# Altium schematic symbol library kmilo17pet-LT_OpAmp_LT1000.SchLib: 2280 symbols (part 21 of 79)
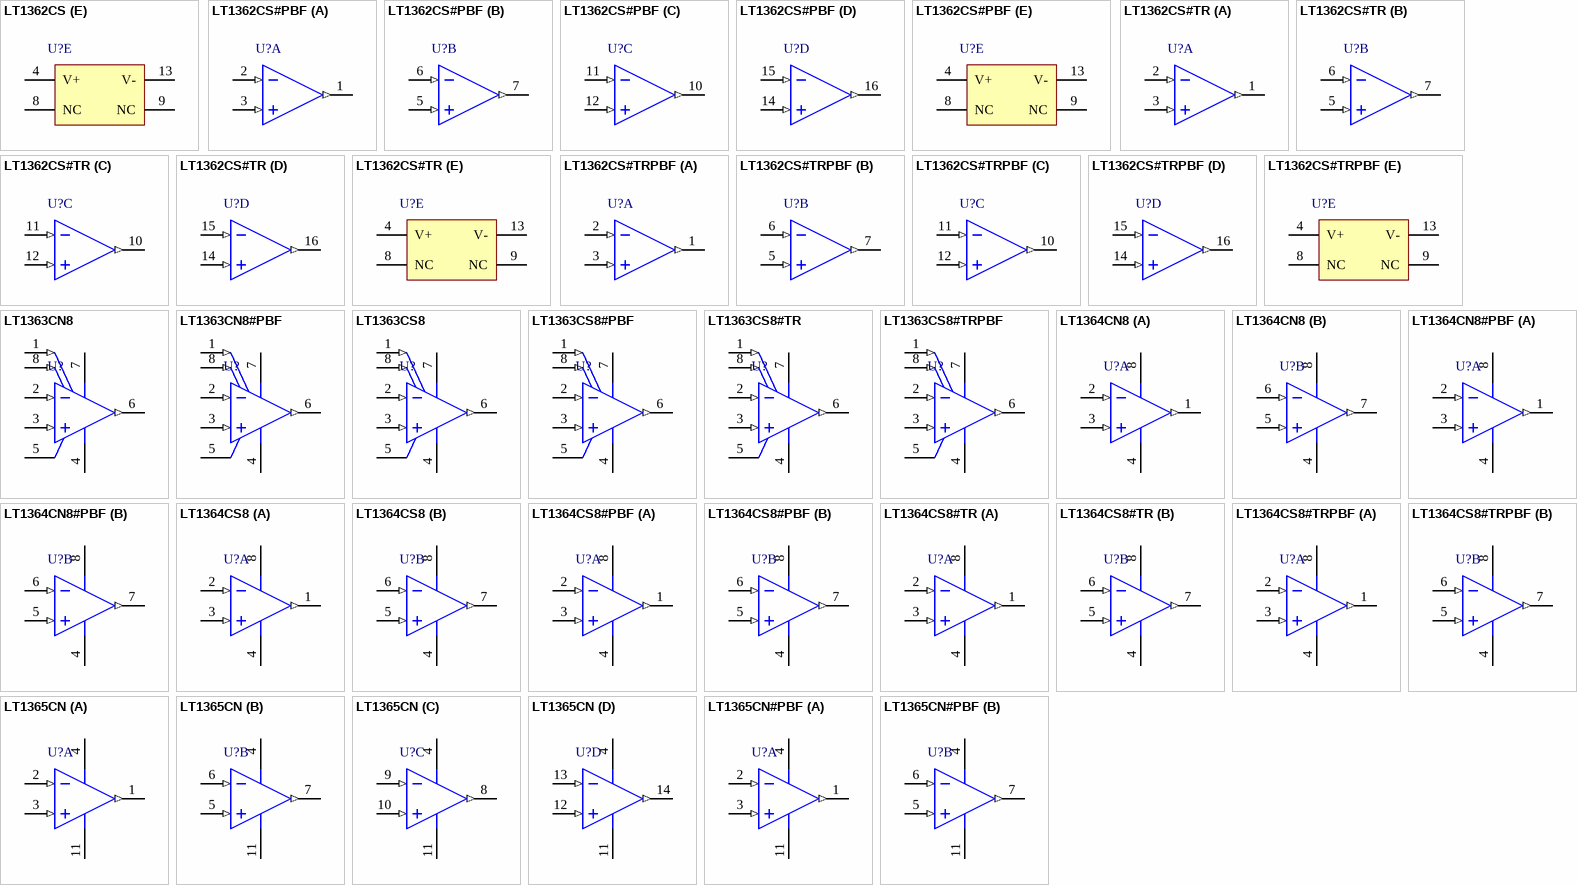
[diagram p125: symbols LT1362CS to LT1365CN#PBF]

## LT1363CS8#PBF
designator U?
Single Channel, High Speed Precision Operational Amplifier, 70 MHz Typical GBW, 1000 V/us Typical SR, 3 to 36 V, 8-Pin SOIC (S8-8), Commerical, Pb-Free; Linear Technology Part Number: LT1363; Manufacturer: Linear Technology; PartNumber: LT1363CS8#PBF; Channels (#): 1; GBW (MHz) Typical: 70; Is (mA) Typical: 6.3; SR (V/us) Typical: 1000; Vos (mV) Typical: 0.5; Vs Max (V): 36; Vs Min (V): 3; DatasheetVersion: Rev. A; PackageVersion: Rev G; PackageReference: LT-S8-8; PackageDescription: 8-Pin Plastic Small Outline, Body 4.9 x 3.9 mm, Pitch 1.27 mm; Supplier 1: Digi-Key; Supplier Part Number 1: LT1363CS8#PBF-ND; Supplier 2: Newark; Supplier Part Number 2: 57M3505; RoHS: Pb-Free; Type: VFB; Mounting Technology: Surface Mount; ComponentLink1Description: Manufacturer URL; ComponentLink1URL: http://www.linear.com/; ComponentLink2Description: Datasheet; ComponentLink2URL: http://cds.linear.com/docs/en/datasheet/1363fa.pdf; ComponentLink3Description: Package Specification; ComponentLink3URL: http://cds.linear.com/docs/en/packaging/05081610_G_SO8.pdf
footprint LT-S8-8_N (SOIC, 8-Leads, Body 4.9x3.9mm, Pitch 1.27mm, IPC Medium Density)
footprint LT-S8-8_L (SOIC, 8-Leads, Body 4.9x3.9mm, Pitch 1.27mm, IPC High Density)
footprint LT-S8-8_M (SOIC, 8-Leads, Body 4.9x3.9mm, Pitch 1.27mm, IPC Low Density)
pins: 1 NULL (in), 2 -IN (in), 3 +IN (in), 4 V- (power), 5 NC, 6 VOUT (out), 7 V+ (power), 8 NULL (in)

## LT1363CS8#TR
designator U?
Single Channel, High Speed Precision Operational Amplifier, 70 MHz Typical GBW, 1000 V/us Typical SR, 3 to 36 V, 8-Pin SOIC (S8-8), Commerical, Reel; Linear Technology Part Number: LT1363; Manufacturer: Linear Technology; PartNumber: LT1363CS8#TR; Channels (#): 1; GBW (MHz) Typical: 70; Is (mA) Typical: 6.3; SR (V/us) Typical: 1000; Vos (mV) Typical: 0.5; Vs Max (V): 36; Vs Min (V): 3; DatasheetVersion: Rev. A; PackageVersion: Rev G; PackageReference: LT-S8-8; PackageDescription: 8-Pin Plastic Small Outline, Body 4.9 x 3.9 mm, Pitch 1.27 mm; Supplier 1: Digi-Key; Supplier Part Number 1: LT1363CS8#TR-ND; Supplier 2: Newark; Supplier Part Number 2: 57M3506; Packing: Reel; Type: VFB; Mounting Technology: Surface Mount; ComponentLink1Description: Manufacturer URL; ComponentLink1URL: http://www.linear.com/; ComponentLink2Description: Datasheet; ComponentLink2URL: http://cds.linear.com/docs/en/datasheet/1363fa.pdf; ComponentLink3Description: Package Specification; ComponentLink3URL: http://cds.linear.com/docs/en/packaging/05081610_G_SO8.pdf
footprint LT-S8-8_N (SOIC, 8-Leads, Body 4.9x3.9mm, Pitch 1.27mm, IPC Medium Density)
footprint LT-S8-8_L (SOIC, 8-Leads, Body 4.9x3.9mm, Pitch 1.27mm, IPC High Density)
footprint LT-S8-8_M (SOIC, 8-Leads, Body 4.9x3.9mm, Pitch 1.27mm, IPC Low Density)
pins: 1 NULL (in), 2 -IN (in), 3 +IN (in), 4 V- (power), 5 NC, 6 VOUT (out), 7 V+ (power), 8 NULL (in)

## LT1363CS8#TRPBF
designator U?
Single Channel, High Speed Precision Operational Amplifier, 70 MHz Typical GBW, 1000 V/us Typical SR, 3 to 36 V, 8-Pin SOIC (S8-8), Commerical, Pb-Free, Reel; Linear Technology Part Number: LT1363; Manufacturer: Linear Technology; PartNumber: LT1363CS8#TRPBF; Channels (#): 1; GBW (MHz) Typical: 70; Is (mA) Typical: 6.3; SR (V/us) Typical: 1000; Vos (mV) Typical: 0.5; Vs Max (V): 36; Vs Min (V): 3; DatasheetVersion: Rev. A; PackageVersion: Rev G; PackageReference: LT-S8-8; PackageDescription: 8-Pin Plastic Small Outline, Body 4.9 x 3.9 mm, Pitch 1.27 mm; Supplier 1: Digi-Key; Supplier Part Number 1: LT1363CS8#TRPBF-ND; Supplier 2: Newark; Supplier Part Number 2: 57M3507; Packing: Reel; RoHS: Pb-Free; Type: VFB; Mounting Technology: Surface Mount; ComponentLink1Description: Manufacturer URL; ComponentLink1URL: http://www.linear.com/; ComponentLink2Description: Datasheet; ComponentLink2URL: http://cds.linear.com/docs/en/datasheet/1363fa.pdf; ComponentLink3Description: Package Specification; ComponentLink3URL: http://cds.linear.com/docs/en/packaging/05081610_G_SO8.pdf
footprint LT-S8-8_N (SOIC, 8-Leads, Body 4.9x3.9mm, Pitch 1.27mm, IPC Medium Density)
footprint LT-S8-8_L (SOIC, 8-Leads, Body 4.9x3.9mm, Pitch 1.27mm, IPC High Density)
footprint LT-S8-8_M (SOIC, 8-Leads, Body 4.9x3.9mm, Pitch 1.27mm, IPC Low Density)
pins: 1 NULL (in), 2 -IN (in), 3 +IN (in), 4 V- (power), 5 NC, 6 VOUT (out), 7 V+ (power), 8 NULL (in)

## LT1364CN8
designator U?
Dual Channel, High Speed Precision Operational Amplifier, 70 MHz Typical GBW, 1000 V/us Typical SR, 3 to 36 V, 8-Pin DIP (N8-8), Commercial; Linear Technology Part Number: LT1364; Manufacturer: Linear Technology; PartNumber: LT1364CN8; Channels (#): 2; GBW (MHz) Typical: 70; Is (mA) Typical: 6; SR (V/us) Typical: 1000; Vos (mV) Typical: 0.5; Vs Max (V): 36; Vs Min (V): 3; DatasheetVersion: Rev. A; PackageVersion: Rev I; PackageReference: LT-N8-8; PackageDescription: 8-Lead PDIP, Body 10.16 x 6.48 mm, Pitch 2.54 mm; Supplier 1: Digi-Key; Supplier Part Number 1: LT1364CN8-ND; Type: VFB; Mounting Technology: Surface Mount; ComponentLink1Description: Manufacturer URL; ComponentLink1URL: http://www.linear.com/; ComponentLink2Description: Datasheet; ComponentLink2URL: http://cds.linear.com/docs/en/datasheet/13645fa.pdf; ComponentLink3Description: Package Specification; ComponentLink3URL: http://cds.linear.com/docs/en/packaging/05081510_I_N8.pdf
footprint LT-N8-8 (DIP, 8-Leads, Body 10.16x6.48mm, Pitch 2.54mm)
pins on every part: 4 V- (power), 8 V+ (power)
part A pins: 1 OUT A (out), 2 -IN A (in), 3 +IN A (in)
part B pins: 5 +IN B (in), 6 -IN B (in), 7 OUT B (out)

## LT1364CN8#PBF
designator U?
Dual Channel, High Speed Precision Operational Amplifier, 70 MHz Typical GBW, 1000 V/us Typical SR, 3 to 36 V, 8-Pin DIP (N8-8), Commercial, Pb-Free; Linear Technology Part Number: LT1364; Manufacturer: Linear Technology; PartNumber: LT1364CN8#PBF; Channels (#): 2; GBW (MHz) Typical: 70; Is (mA) Typical: 6; SR (V/us) Typical: 1000; Vos (mV) Typical: 0.5; Vs Max (V): 36; Vs Min (V): 3; DatasheetVersion: Rev. A; PackageVersion: Rev I; PackageReference: LT-N8-8; PackageDescription: 8-Lead PDIP, Body 10.16 x 6.48 mm, Pitch 2.54 mm; Supplier 1: Digi-Key; Supplier Part Number 1: LT1364CN8#PBF-ND; Supplier 2: Farnell; Supplier Part Number 2: 1330644; Supplier 3: Newark; Supplier Part Number 3: 57M3509; RoHS: Pb-Free; Type: VFB; Mounting Technology: Through Hole; ComponentLink1Description: Manufacturer URL; ComponentLink1URL: http://www.linear.com/; ComponentLink2Description: Datasheet; ComponentLink2URL: http://cds.linear.com/docs/en/datasheet/13645fa.pdf; ComponentLink3Description: Package Specification; ComponentLink3URL: http://cds.linear.com/docs/en/packaging/05081510_I_N8.pdf
footprint LT-N8-8 (DIP, 8-Leads, Body 10.16x6.48mm, Pitch 2.54mm)
pins on every part: 4 V- (power), 8 V+ (power)
part A pins: 1 OUT A (out), 2 -IN A (in), 3 +IN A (in)
part B pins: 5 +IN B (in), 6 -IN B (in), 7 OUT B (out)

## LT1364CS8
designator U?
Dual Channel, High Speed Precision Operational Amplifier, 70 MHz Typical GBW, 1000 V/us Typical SR, 3 to 36 V, 8-Pin SOIC (S8-8), Commercial; Linear Technology Part Number: LT1364; Manufacturer: Linear Technology; PartNumber: LT1364CS8; Channels (#): 2; GBW (MHz) Typical: 70; Is (mA) Typical: 6; SR (V/us) Typical: 1000; Vos (mV) Typical: 0.5; Vs Max (V): 36; Vs Min (V): 3; DatasheetVersion: Rev. A; PackageVersion: Rev G; PackageReference: LT-S8-8; PackageDescription: 8-Pin Plastic Small Outline, Body 4.9 x 3.9 mm, Pitch 1.27 mm; Supplier 1: Digi-Key; Supplier Part Number 1: LT1364CS8-ND; Supplier 2: Newark; Supplier Part Number 2: 57M3510; Type: VFB; Mounting Technology: Surface Mount; ComponentLink1Description: Manufacturer URL; ComponentLink1URL: http://www.linear.com/; ComponentLink2Description: Datasheet; ComponentLink2URL: http://cds.linear.com/docs/en/datasheet/13645fa.pdf; ComponentLink3Description: Package Specification; ComponentLink3URL: http://cds.linear.com/docs/en/packaging/05081610_G_SO8.pdf
footprint LT-S8-8_N (SOIC, 8-Leads, Body 4.9x3.9mm, Pitch 1.27mm, IPC Medium Density)
footprint LT-S8-8_L (SOIC, 8-Leads, Body 4.9x3.9mm, Pitch 1.27mm, IPC High Density)
footprint LT-S8-8_M (SOIC, 8-Leads, Body 4.9x3.9mm, Pitch 1.27mm, IPC Low Density)
pins on every part: 4 V- (power), 8 V+ (power)
part A pins: 1 OUT A (out), 2 -IN A (in), 3 +IN A (in)
part B pins: 5 +IN B (in), 6 -IN B (in), 7 OUT B (out)

## LT1364CS8#PBF
designator U?
Dual Channel, High Speed Precision Operational Amplifier, 70 MHz Typical GBW, 1000 V/us Typical SR, 3 to 36 V, 8-Pin SOIC (S8-8), Commercial, Pb-Free; Linear Technology Part Number: LT1364; Manufacturer: Linear Technology; PartNumber: LT1364CS8#PBF; Channels (#): 2; GBW (MHz) Typical: 70; Is (mA) Typical: 6; SR (V/us) Typical: 1000; Vos (mV) Typical: 0.5; Vs Max (V): 36; Vs Min (V): 3; DatasheetVersion: Rev. A; PackageVersion: Rev G; PackageReference: LT-S8-8; PackageDescription: 8-Pin Plastic Small Outline, Body 4.9 x 3.9 mm, Pitch 1.27 mm; Supplier 1: Digi-Key; Supplier Part Number 1: LT1364CS8#PBF-ND; Supplier 2: Farnell; Supplier Part Number 2: 1663414; Supplier 3: Newark; Supplier Part Number 3: 57M3511; RoHS: Pb-Free; Type: VFB; Mounting Technology: Surface Mount; ComponentLink1Description: Manufacturer URL; ComponentLink1URL: http://www.linear.com/; ComponentLink2Description: Datasheet; ComponentLink2URL: http://cds.linear.com/docs/en/datasheet/13645fa.pdf; ComponentLink3Description: Package Specification; ComponentLink3URL: http://cds.linear.com/docs/en/packaging/05081610_G_SO8.pdf
footprint LT-S8-8_N (SOIC, 8-Leads, Body 4.9x3.9mm, Pitch 1.27mm, IPC Medium Density)
footprint LT-S8-8_L (SOIC, 8-Leads, Body 4.9x3.9mm, Pitch 1.27mm, IPC High Density)
footprint LT-S8-8_M (SOIC, 8-Leads, Body 4.9x3.9mm, Pitch 1.27mm, IPC Low Density)
pins on every part: 4 V- (power), 8 V+ (power)
part A pins: 1 OUT A (out), 2 -IN A (in), 3 +IN A (in)
part B pins: 5 +IN B (in), 6 -IN B (in), 7 OUT B (out)

## LT1364CS8#TR
designator U?
Dual Channel, High Speed Precision Operational Amplifier, 70 MHz Typical GBW, 1000 V/us Typical SR, 3 to 36 V, 8-Pin SOIC (S8-8), Commercial, Reel; Linear Technology Part Number: LT1364; Manufacturer: Linear Technology; PartNumber: LT1364CS8#TR; Channels (#): 2; GBW (MHz) Typical: 70; Is (mA) Typical: 6; SR (V/us) Typical: 1000; Vos (mV) Typical: 0.5; Vs Max (V): 36; Vs Min (V): 3; DatasheetVersion: Rev. A; PackageVersion: Rev G; PackageReference: LT-S8-8; PackageDescription: 8-Pin Plastic Small Outline, Body 4.9 x 3.9 mm, Pitch 1.27 mm; Supplier 1: Digi-Key; Supplier Part Number 1: LT1364CS8#TR-ND; Packing: Reel; Type: VFB; Mounting Technology: Surface Mount; ComponentLink1Description: Manufacturer URL; ComponentLink1URL: http://www.linear.com/; ComponentLink2Description: Datasheet; ComponentLink2URL: http://cds.linear.com/docs/en/datasheet/13645fa.pdf; ComponentLink3Description: Package Specification; ComponentLink3URL: http://cds.linear.com/docs/en/packaging/05081610_G_SO8.pdf
footprint LT-S8-8_N (SOIC, 8-Leads, Body 4.9x3.9mm, Pitch 1.27mm, IPC Medium Density)
footprint LT-S8-8_L (SOIC, 8-Leads, Body 4.9x3.9mm, Pitch 1.27mm, IPC High Density)
footprint LT-S8-8_M (SOIC, 8-Leads, Body 4.9x3.9mm, Pitch 1.27mm, IPC Low Density)
pins on every part: 4 V- (power), 8 V+ (power)
part A pins: 1 OUT A (out), 2 -IN A (in), 3 +IN A (in)
part B pins: 5 +IN B (in), 6 -IN B (in), 7 OUT B (out)

## LT1364CS8#TRPBF
designator U?
Dual Channel, High Speed Precision Operational Amplifier, 70 MHz Typical GBW, 1000 V/us Typical SR, 3 to 36 V, 8-Pin SOIC (S8-8), Commercial, Pb-Free, Reel; Linear Technology Part Number: LT1364; Manufacturer: Linear Technology; PartNumber: LT1364CS8#TRPBF; Channels (#): 2; GBW (MHz) Typical: 70; Is (mA) Typical: 6; SR (V/us) Typical: 1000; Vos (mV) Typical: 0.5; Vs Max (V): 36; Vs Min (V): 3; DatasheetVersion: Rev. A; PackageVersion: Rev G; PackageReference: LT-S8-8; PackageDescription: 8-Pin Plastic Small Outline, Body 4.9 x 3.9 mm, Pitch 1.27 mm; Supplier 1: Digi-Key; Supplier Part Number 1: LT1364CS8#TRPBF-ND; Supplier 2: Newark; Supplier Part Number 2: 57M3513; Packing: Reel; RoHS: Pb-Free; Type: VFB; Mounting Technology: Surface Mount; ComponentLink1Description: Manufacturer URL; ComponentLink1URL: http://www.linear.com/; ComponentLink2Description: Datasheet; ComponentLink2URL: http://cds.linear.com/docs/en/datasheet/13645fa.pdf; ComponentLink3Description: Package Specification; ComponentLink3URL: http://cds.linear.com/docs/en/packaging/05081610_G_SO8.pdf
footprint LT-S8-8_N (SOIC, 8-Leads, Body 4.9x3.9mm, Pitch 1.27mm, IPC Medium Density)
footprint LT-S8-8_L (SOIC, 8-Leads, Body 4.9x3.9mm, Pitch 1.27mm, IPC High Density)
footprint LT-S8-8_M (SOIC, 8-Leads, Body 4.9x3.9mm, Pitch 1.27mm, IPC Low Density)
pins on every part: 4 V- (power), 8 V+ (power)
part A pins: 1 OUT A (out), 2 -IN A (in), 3 +IN A (in)
part B pins: 5 +IN B (in), 6 -IN B (in), 7 OUT B (out)

## LT1365CN
designator U?
Quad Channel, High Speed Precision Operational Amplifier, 70 MHz Typical GBW, 1000 V/us Typical SR, 3 to 36 V, 14-Pin DIP (N-14), Commerical; Linear Technology Part Number: LT1365; Manufacturer: Linear Technology; PartNumber: LT1365CN; Channels (#): 4; GBW (MHz) Typical: 70; Is (mA) Typical: 6; SR (V/us) Typical: 1000; Vos (mV) Typical: 0.5; Vs Max (V): 36; Vs Min (V): 3; DatasheetVersion: Rev. A; PackageVersion: Rev I; PackageReference: LT-N-14; PackageDescription: 14-Lead PDIP, Body 19.558 x 6.477 mm, Pitch 2.54 mm; Supplier 1: Digi-Key; Supplier Part Number 1: LT1365CN-ND; Type: VFB; Mounting Technology: Surface Mount; ComponentLink1Description: Manufacturer URL; ComponentLink1URL: http://www.linear.com/; ComponentLink2Description: Datasheet; ComponentLink2URL: http://cds.linear.com/docs/en/datasheet/13645fa.pdf; ComponentLink3Description: Package Specification; ComponentLink3URL: http://cds.linear.com/docs/en/packaging/05081510_I_N14.pdf
footprint LT-N-14 (DIP, 14-Leads, Body 19.558x6.477mm, Pitch 2.54mm)
pins on every part: 4 V+ (power), 11 V- (power)
part A pins: 1 OUT A (out), 2 -IN A (in), 3 +IN A (in)
part B pins: 5 +IN B (in), 6 -IN B (in), 7 OUT B (out)
part C pins: 8 OUT C (out), 9 -IN C (in), 10 +IN C (in)
part D pins: 12 +IN D (in), 13 -IN D (in), 14 OUT D (out)

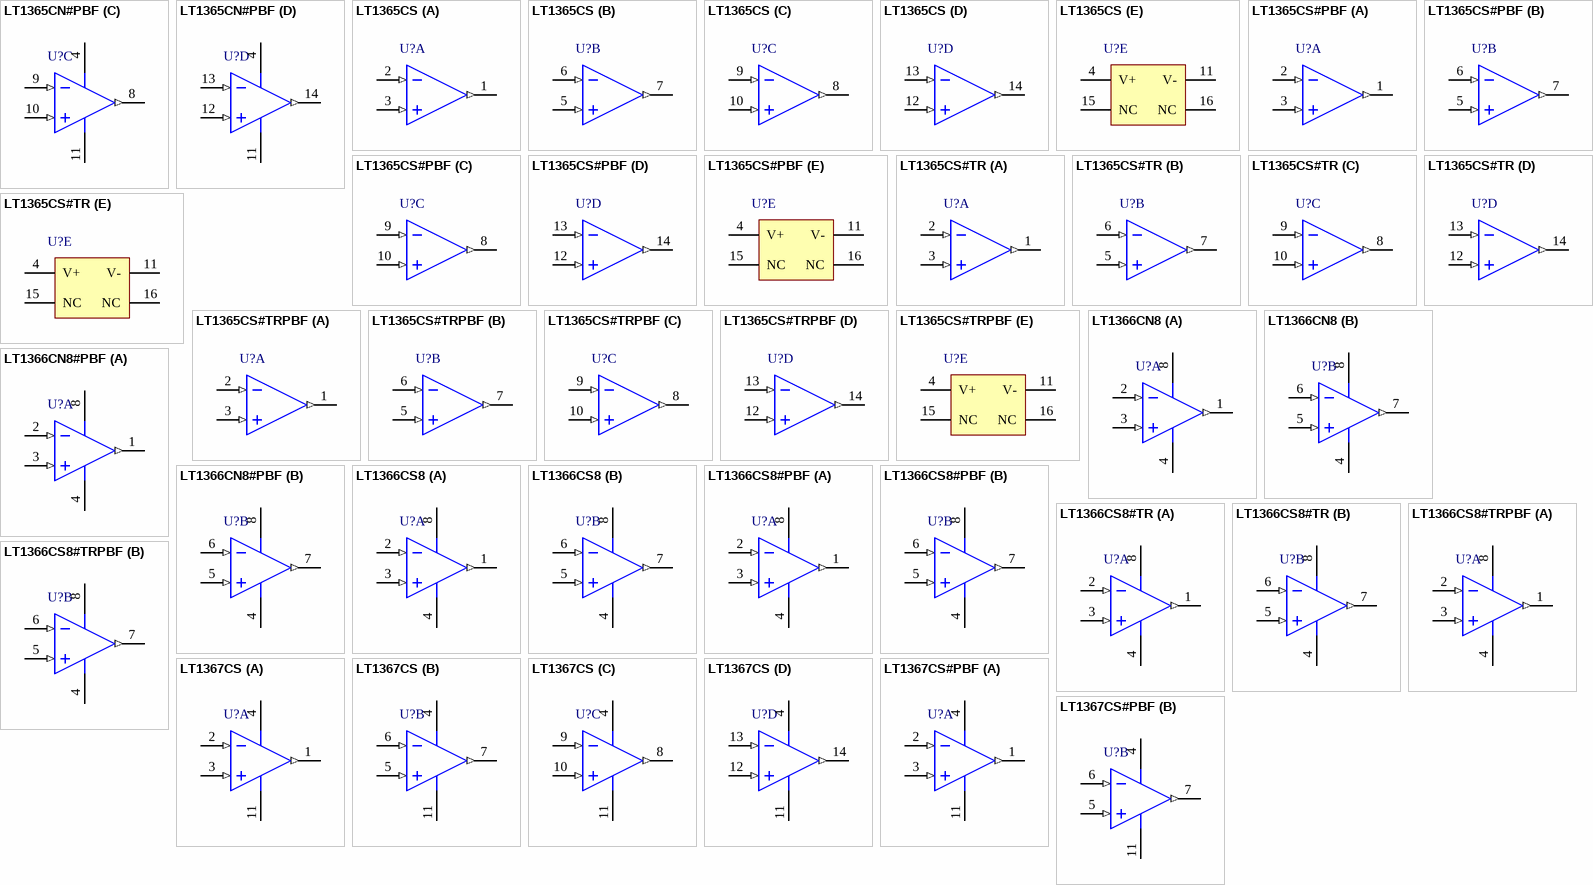
[diagram p32: symbols LT1365CN#PBF to LT1367CS#PBF]

## LT1365CN#PBF
designator U?
Quad Channel, High Speed Precision Operational Amplifier, 70 MHz Typical GBW, 1000 V/us Typical SR, 3 to 36 V, 14-Pin DIP (N-14), Commerical, Pb-Free; Linear Technology Part Number: LT1365; Manufacturer: Linear Technology; PartNumber: LT1365CN#PBF; Channels (#): 4; GBW (MHz) Typical: 70; Is (mA) Typical: 6; SR (V/us) Typical: 1000; Vos (mV) Typical: 0.5; Vs Max (V): 36; Vs Min (V): 3; DatasheetVersion: Rev. A; PackageVersion: Rev I; PackageReference: LT-N-14; PackageDescription: 14-Lead PDIP, Body 19.558 x 6.477 mm, Pitch 2.54 mm; Supplier 1: Digi-Key; Supplier Part Number 1: LT1365CN#PBF-ND; Supplier 2: Newark; Supplier Part Number 2: 57M3515; RoHS: Pb-Free; Type: VFB; Mounting Technology: Through Hole; ComponentLink1Description: Manufacturer URL; ComponentLink1URL: http://www.linear.com/; ComponentLink2Description: Datasheet; ComponentLink2URL: http://cds.linear.com/docs/en/datasheet/13645fa.pdf; ComponentLink3Description: Package Specification; ComponentLink3URL: http://cds.linear.com/docs/en/packaging/05081510_I_N14.pdf
footprint LT-N-14 (DIP, 14-Leads, Body 19.558x6.477mm, Pitch 2.54mm)
pins on every part: 4 V+ (power), 11 V- (power)
part A pins: 1 OUT A (out), 2 -IN A (in), 3 +IN A (in)
part B pins: 5 +IN B (in), 6 -IN B (in), 7 OUT B (out)
part C pins: 8 OUT C (out), 9 -IN C (in), 10 +IN C (in)
part D pins: 12 +IN D (in), 13 -IN D (in), 14 OUT D (out)

## LT1365CS
designator U?
Quad Channel, High Speed Precision Operational Amplifier, 70 MHz Typical GBW, 1000 V/us Typical SR, 3 to 36 V, 16-Pin SOIC (S-16), Commercial; Linear Technology Part Number: LT1365; Manufacturer: Linear Technology; PartNumber: LT1365CS; Channels (#): 4; GBW (MHz) Typical: 70; Is (mA) Typical: 6; SR (V/us) Typical: 1000; Vos (mV) Typical: 0.5; Vs Max (V): 36; Vs Min (V): 3; DatasheetVersion: Rev. A; PackageVersion: Rev G; PackageReference: LT-S-16; PackageDescription: 16-Lead Plastic Small Outline, Body 9.9 x 3.9 mm, Pitch 1.27 mm; Supplier 1: Digi-Key; Supplier Part Number 1: LT1365CS-ND; Type: VFB; Mounting Technology: Surface Mount; ComponentLink1Description: Manufacturer URL; ComponentLink1URL: http://www.linear.com/; ComponentLink2Description: Datasheet; ComponentLink2URL: http://cds.linear.com/docs/en/datasheet/13645fa.pdf; ComponentLink3Description: Package Specification; ComponentLink3URL: http://cds.linear.com/docs/en/packaging/S16%2005-08-1610%20Rev%20G.pdf
footprint LT-S-16_N (SOP, 16-Leads, Body 9.9x3.9mm, Pitch 1.27mm, IPC Medium Density)
footprint LT-S-16_L (SOP, 16-Leads, Body 9.9x3.9mm, Pitch 1.27mm, IPC High Density)
footprint LT-S-16_M (SOP, 16-Leads, Body 9.9x3.9mm, Pitch 1.27mm, IPC Low Density)
part A pins: 1 OUT A (out), 2 -IN A (in), 3 +IN A (in)
part B pins: 5 +IN B (in), 6 -IN B (in), 7 OUT B (out)
part C pins: 8 OUT C (out), 9 -IN C (in), 10 +IN C (in)
part D pins: 12 +IN D (in), 13 -IN D (in), 14 OUT D (out)
part E pins: 4 V+ (power), 11 V- (power), 15 NC, 16 NC

## LT1365CS#PBF
designator U?
Quad Channel, High Speed Precision Operational Amplifier, 70 MHz Typical GBW, 1000 V/us Typical SR, 3 to 36 V, 16-Pin SOIC (S-16), Commercial, Pb-Free; Linear Technology Part Number: LT1365; Manufacturer: Linear Technology; PartNumber: LT1365CS#PBF; Channels (#): 4; GBW (MHz) Typical: 70; Is (mA) Typical: 6; SR (V/us) Typical: 1000; Vos (mV) Typical: 0.5; Vs Max (V): 36; Vs Min (V): 3; DatasheetVersion: Rev. A; PackageVersion: Rev G; PackageReference: LT-S-16; PackageDescription: 16-Lead Plastic Small Outline, Body 9.9 x 3.9 mm, Pitch 1.27 mm; Supplier 1: Digi-Key; Supplier Part Number 1: LT1365CS#PBF-ND; Supplier 2: Farnell; Supplier Part Number 2: 2252713; Supplier 3: Newark; Supplier Part Number 3: 57M3517; RoHS: Pb-Free; Type: VFB; Mounting Technology: Surface Mount; ComponentLink1Description: Manufacturer URL; ComponentLink1URL: http://www.linear.com/; ComponentLink2Description: Datasheet; ComponentLink2URL: http://cds.linear.com/docs/en/datasheet/13645fa.pdf; ComponentLink3Description: Package Specification; ComponentLink3URL: http://cds.linear.com/docs/en/packaging/S16%2005-08-1610%20Rev%20G.pdf
footprint LT-S-16_N (SOP, 16-Leads, Body 9.9x3.9mm, Pitch 1.27mm, IPC Medium Density)
footprint LT-S-16_L (SOP, 16-Leads, Body 9.9x3.9mm, Pitch 1.27mm, IPC High Density)
footprint LT-S-16_M (SOP, 16-Leads, Body 9.9x3.9mm, Pitch 1.27mm, IPC Low Density)
part A pins: 1 OUT A (out), 2 -IN A (in), 3 +IN A (in)
part B pins: 5 +IN B (in), 6 -IN B (in), 7 OUT B (out)
part C pins: 8 OUT C (out), 9 -IN C (in), 10 +IN C (in)
part D pins: 12 +IN D (in), 13 -IN D (in), 14 OUT D (out)
part E pins: 4 V+ (power), 11 V- (power), 15 NC, 16 NC

## LT1365CS#TR
designator U?
Quad Channel, High Speed Precision Operational Amplifier, 70 MHz Typical GBW, 1000 V/us Typical SR, 3 to 36 V, 16-Pin SOIC (S-16), Commercial, Reel; Linear Technology Part Number: LT1365; Manufacturer: Linear Technology; PartNumber: LT1365CS#TR; Channels (#): 4; GBW (MHz) Typical: 70; Is (mA) Typical: 6; SR (V/us) Typical: 1000; Vos (mV) Typical: 0.5; Vs Max (V): 36; Vs Min (V): 3; DatasheetVersion: Rev. A; PackageVersion: Rev G; PackageReference: LT-S-16; PackageDescription: 16-Lead Plastic Small Outline, Body 9.9 x 3.9 mm, Pitch 1.27 mm; Supplier 1: Digi-Key; Supplier Part Number 1: LT1365CS#TR-ND; Packing: Reel; Type: VFB; Mounting Technology: Surface Mount; ComponentLink1Description: Manufacturer URL; ComponentLink1URL: http://www.linear.com/; ComponentLink2Description: Datasheet; ComponentLink2URL: http://cds.linear.com/docs/en/datasheet/13645fa.pdf; ComponentLink3Description: Package Specification; ComponentLink3URL: http://cds.linear.com/docs/en/packaging/S16%2005-08-1610%20Rev%20G.pdf
footprint LT-S-16_N (SOP, 16-Leads, Body 9.9x3.9mm, Pitch 1.27mm, IPC Medium Density)
footprint LT-S-16_L (SOP, 16-Leads, Body 9.9x3.9mm, Pitch 1.27mm, IPC High Density)
footprint LT-S-16_M (SOP, 16-Leads, Body 9.9x3.9mm, Pitch 1.27mm, IPC Low Density)
part A pins: 1 OUT A (out), 2 -IN A (in), 3 +IN A (in)
part B pins: 5 +IN B (in), 6 -IN B (in), 7 OUT B (out)
part C pins: 8 OUT C (out), 9 -IN C (in), 10 +IN C (in)
part D pins: 12 +IN D (in), 13 -IN D (in), 14 OUT D (out)
part E pins: 4 V+ (power), 11 V- (power), 15 NC, 16 NC

## LT1365CS#TRPBF
designator U?
Quad Channel, High Speed Precision Operational Amplifier, 70 MHz Typical GBW, 1000 V/us Typical SR, 3 to 36 V, 16-Pin SOIC (S-16), Commercial, Pb-Free, Reel; Linear Technology Part Number: LT1365; Manufacturer: Linear Technology; PartNumber: LT1365CS#TRPBF; Channels (#): 4; GBW (MHz) Typical: 70; Is (mA) Typical: 6; SR (V/us) Typical: 1000; Vos (mV) Typical: 0.5; Vs Max (V): 36; Vs Min (V): 3; DatasheetVersion: Rev. A; PackageVersion: Rev G; PackageReference: LT-S-16; PackageDescription: 16-Lead Plastic Small Outline, Body 9.9 x 3.9 mm, Pitch 1.27 mm; Supplier 1: Digi-Key; Supplier Part Number 1: LT1365CS#TRPBF-ND; Supplier 2: Newark; Supplier Part Number 2: 57M3519; Packing: Reel; RoHS: Pb-Free; Type: VFB; Mounting Technology: Surface Mount; ComponentLink1Description: Manufacturer URL; ComponentLink1URL: http://www.linear.com/; ComponentLink2Description: Datasheet; ComponentLink2URL: http://cds.linear.com/docs/en/datasheet/13645fa.pdf; ComponentLink3Description: Package Specification; ComponentLink3URL: http://cds.linear.com/docs/en/packaging/S16%2005-08-1610%20Rev%20G.pdf
footprint LT-S-16_N (SOP, 16-Leads, Body 9.9x3.9mm, Pitch 1.27mm, IPC Medium Density)
footprint LT-S-16_L (SOP, 16-Leads, Body 9.9x3.9mm, Pitch 1.27mm, IPC High Density)
footprint LT-S-16_M (SOP, 16-Leads, Body 9.9x3.9mm, Pitch 1.27mm, IPC Low Density)
part A pins: 1 OUT A (out), 2 -IN A (in), 3 +IN A (in)
part B pins: 5 +IN B (in), 6 -IN B (in), 7 OUT B (out)
part C pins: 8 OUT C (out), 9 -IN C (in), 10 +IN C (in)
part D pins: 12 +IN D (in), 13 -IN D (in), 14 OUT D (out)
part E pins: 4 V+ (power), 11 V- (power), 15 NC, 16 NC

## LT1366CN8
designator U?
Dual Channel, Operational Amplifier, C-load Stable up to 1000pF, 0.4 MHz Typical GBW, 0.13 V/us Typical SR, 2 to 36 V, 8-Pin DIP (N8-8), Commerical; Linear Technology Part Number: LT1366; Manufacturer: Linear Technology; PartNumber: LT1366CN8; Channels (#): 2; GBW (MHz) Typical: 0.4; Is (mA) Typical: 0.34; SR (V/us) Typical: 0.13; Vos (mV) Typical: 0.15; Vs Max (V): 36; DatasheetVersion: Rev. B; PackageVersion: Rev I; PackageReference: LT-N8-8; PackageDescription: 8-Lead PDIP, Body 10.16 x 6.48 mm, Pitch 2.54 mm; Supplier 1: Digi-Key; Supplier Part Number 1: LT1366CN8-ND; Type: VFB; Vs Min (V): 2; Mounting Technology: Surface Mount; ComponentLink1Description: Manufacturer URL; ComponentLink1URL: http://www.linear.com/; ComponentLink2Description: Datasheet; ComponentLink2URL: http://cds.linear.com/docs/en/datasheet/1366fb.pdf; ComponentLink3Description: Package Specification; ComponentLink3URL: http://cds.linear.com/docs/en/packaging/05081510_I_N8.pdf
footprint LT-N8-8 (DIP, 8-Leads, Body 10.16x6.48mm, Pitch 2.54mm)
pins on every part: 4 V- (power), 8 V+ (power)
part A pins: 1 OUT A (out), 2 -IN A (in), 3 +IN A (in)
part B pins: 5 +IN B (in), 6 -IN B (in), 7 OUT B (out)

## LT1366CN8#PBF
designator U?
Dual Channel, Operational Amplifier, C-load Stable up to 1000pF, 0.4 MHz Typical GBW, 0.13 V/us Typical SR, 2 to 36 V, 8-Pin DIP (N8-8), Commerical, Pb-Free; Linear Technology Part Number: LT1366; Manufacturer: Linear Technology; PartNumber: LT1366CN8#PBF; Channels (#): 2; GBW (MHz) Typical: 0.4; Is (mA) Typical: 0.34; SR (V/us) Typical: 0.13; Vos (mV) Typical: 0.15; Vs Max (V): 36; DatasheetVersion: Rev. B; PackageVersion: Rev I; PackageReference: LT-N8-8; PackageDescription: 8-Lead PDIP, Body 10.16 x 6.48 mm, Pitch 2.54 mm; Supplier 1: Digi-Key; Supplier Part Number 1: LT1366CN8#PBF-ND; RoHS: Pb-Free; Type: VFB; Vs Min (V): 2; Mounting Technology: Through Hole; ComponentLink1Description: Manufacturer URL; ComponentLink1URL: http://www.linear.com/; ComponentLink2Description: Datasheet; ComponentLink2URL: http://cds.linear.com/docs/en/datasheet/1366fb.pdf; ComponentLink3Description: Package Specification; ComponentLink3URL: http://cds.linear.com/docs/en/packaging/05081510_I_N8.pdf
footprint LT-N8-8 (DIP, 8-Leads, Body 10.16x6.48mm, Pitch 2.54mm)
pins on every part: 4 V- (power), 8 V+ (power)
part A pins: 1 OUT A (out), 2 -IN A (in), 3 +IN A (in)
part B pins: 5 +IN B (in), 6 -IN B (in), 7 OUT B (out)

## LT1366CS8
designator U?
Dual Channel, Operational Amplifier, C-load Stable up to 1000pF, 0.4 MHz Typical GBW, 0.13 V/us Typical SR, 2 to 36 V, 8-Pin SOIC (S8-8), Commerical; Linear Technology Part Number: LT1366; Manufacturer: Linear Technology; PartNumber: LT1366CS8; Channels (#): 2; GBW (MHz) Typical: 0.4; Is (mA) Typical: 0.34; SR (V/us) Typical: 0.13; Vos (mV) Typical: 0.15; Vs Max (V): 36; DatasheetVersion: Rev. B; PackageVersion: Rev G; PackageReference: LT-S8-8; PackageDescription: 8-Pin Plastic Small Outline, Body 4.9 x 3.9 mm, Pitch 1.27 mm; Supplier 1: Digi-Key; Supplier Part Number 1: LT1366CS8-ND; Supplier 2: Newark; Supplier Part Number 2: 57M3522; Type: VFB; Vs Min (V): 2; Mounting Technology: Surface Mount; ComponentLink1Description: Manufacturer URL; ComponentLink1URL: http://www.linear.com/; ComponentLink2Description: Datasheet; ComponentLink2URL: http://cds.linear.com/docs/en/datasheet/1366fb.pdf; ComponentLink3Description: Package Specification; ComponentLink3URL: http://cds.linear.com/docs/en/packaging/05081610_G_SO8.pdf
footprint LT-S8-8_N (SOIC, 8-Leads, Body 4.9x3.9mm, Pitch 1.27mm, IPC Medium Density)
footprint LT-S8-8_L (SOIC, 8-Leads, Body 4.9x3.9mm, Pitch 1.27mm, IPC High Density)
footprint LT-S8-8_M (SOIC, 8-Leads, Body 4.9x3.9mm, Pitch 1.27mm, IPC Low Density)
pins on every part: 4 V- (power), 8 V+ (power)
part A pins: 1 OUT A (out), 2 -IN A (in), 3 +IN A (in)
part B pins: 5 +IN B (in), 6 -IN B (in), 7 OUT B (out)

## LT1366CS8#PBF
designator U?
Dual Channel, Operational Amplifier, C-load Stable up to 1000pF, 0.4 MHz Typical GBW, 0.13 V/us Typical SR, 2 to 36 V, 8-Pin SOIC (S8-8), Commerical, Pb-Free; Linear Technology Part Number: LT1366; Manufacturer: Linear Technology; PartNumber: LT1366CS8#PBF; Channels (#): 2; GBW (MHz) Typical: 0.4; Is (mA) Typical: 0.34; SR (V/us) Typical: 0.13; Vos (mV) Typical: 0.15; Vs Max (V): 36; DatasheetVersion: Rev. B; PackageVersion: Rev G; PackageReference: LT-S8-8; PackageDescription: 8-Pin Plastic Small Outline, Body 4.9 x 3.9 mm, Pitch 1.27 mm; Supplier 1: Digi-Key; Supplier Part Number 1: LT1366CS8#PBF-ND; Supplier 2: Newark; Supplier Part Number 2: 57M3523; RoHS: Pb-Free; Type: VFB; Vs Min (V): 2; Mounting Technology: Surface Mount; ComponentLink1Description: Manufacturer URL; ComponentLink1URL: http://www.linear.com/; ComponentLink2Description: Datasheet; ComponentLink2URL: http://cds.linear.com/docs/en/datasheet/1366fb.pdf; ComponentLink3Description: Package Specification; ComponentLink3URL: http://cds.linear.com/docs/en/packaging/05081610_G_SO8.pdf
footprint LT-S8-8_N (SOIC, 8-Leads, Body 4.9x3.9mm, Pitch 1.27mm, IPC Medium Density)
footprint LT-S8-8_L (SOIC, 8-Leads, Body 4.9x3.9mm, Pitch 1.27mm, IPC High Density)
footprint LT-S8-8_M (SOIC, 8-Leads, Body 4.9x3.9mm, Pitch 1.27mm, IPC Low Density)
pins on every part: 4 V- (power), 8 V+ (power)
part A pins: 1 OUT A (out), 2 -IN A (in), 3 +IN A (in)
part B pins: 5 +IN B (in), 6 -IN B (in), 7 OUT B (out)

## LT1366CS8#TR
designator U?
Dual Channel, Operational Amplifier, C-load Stable up to 1000pF, 0.4 MHz Typical GBW, 0.13 V/us Typical SR, 2 to 36 V, 8-Pin SOIC (S8-8), Commerical, Reel; Linear Technology Part Number: LT1366; Manufacturer: Linear Technology; PartNumber: LT1366CS8#TR; Channels (#): 2; GBW (MHz) Typical: 0.4; Is (mA) Typical: 0.34; SR (V/us) Typical: 0.13; Vos (mV) Typical: 0.15; Vs Max (V): 36; DatasheetVersion: Rev. B; PackageVersion: Rev G; PackageReference: LT-S8-8; PackageDescription: 8-Pin Plastic Small Outline, Body 4.9 x 3.9 mm, Pitch 1.27 mm; Supplier 1: Digi-Key; Supplier Part Number 1: LT1366CS8#TR-ND; Packing: Reel; Type: VFB; Vs Min (V): 2; Mounting Technology: Surface Mount; ComponentLink1Description: Manufacturer URL; ComponentLink1URL: http://www.linear.com/; ComponentLink2Description: Datasheet; ComponentLink2URL: http://cds.linear.com/docs/en/datasheet/1366fb.pdf; ComponentLink3Description: Package Specification; ComponentLink3URL: http://cds.linear.com/docs/en/packaging/05081610_G_SO8.pdf
footprint LT-S8-8_N (SOIC, 8-Leads, Body 4.9x3.9mm, Pitch 1.27mm, IPC Medium Density)
footprint LT-S8-8_L (SOIC, 8-Leads, Body 4.9x3.9mm, Pitch 1.27mm, IPC High Density)
footprint LT-S8-8_M (SOIC, 8-Leads, Body 4.9x3.9mm, Pitch 1.27mm, IPC Low Density)
pins on every part: 4 V- (power), 8 V+ (power)
part A pins: 1 OUT A (out), 2 -IN A (in), 3 +IN A (in)
part B pins: 5 +IN B (in), 6 -IN B (in), 7 OUT B (out)

## LT1366CS8#TRPBF
designator U?
Dual Channel, Operational Amplifier, C-load Stable up to 1000pF, 0.4 MHz Typical GBW, 0.13 V/us Typical SR, 2 to 36 V, 8-Pin SOIC (S8-8), Commerical, Pb-Free, Reel; Linear Technology Part Number: LT1366; Manufacturer: Linear Technology; PartNumber: LT1366CS8#TRPBF; Channels (#): 2; GBW (MHz) Typical: 0.4; Is (mA) Typical: 0.34; SR (V/us) Typical: 0.13; Vos (mV) Typical: 0.15; Vs Max (V): 36; DatasheetVersion: Rev. B; PackageVersion: Rev G; PackageReference: LT-S8-8; PackageDescription: 8-Pin Plastic Small Outline, Body 4.9 x 3.9 mm, Pitch 1.27 mm; Supplier 1: Digi-Key; Supplier Part Number 1: LT1366CS8#TRPBF-ND; Supplier 2: Newark; Supplier Part Number 2: 57M3525; Packing: Reel; RoHS: Pb-Free; Type: VFB; Vs Min (V): 2; Mounting Technology: Surface Mount; ComponentLink1Description: Manufacturer URL; ComponentLink1URL: http://www.linear.com/; ComponentLink2Description: Datasheet; ComponentLink2URL: http://cds.linear.com/docs/en/datasheet/1366fb.pdf; ComponentLink3Description: Package Specification; ComponentLink3URL: http://cds.linear.com/docs/en/packaging/05081610_G_SO8.pdf
footprint LT-S8-8_N (SOIC, 8-Leads, Body 4.9x3.9mm, Pitch 1.27mm, IPC Medium Density)
footprint LT-S8-8_L (SOIC, 8-Leads, Body 4.9x3.9mm, Pitch 1.27mm, IPC High Density)
footprint LT-S8-8_M (SOIC, 8-Leads, Body 4.9x3.9mm, Pitch 1.27mm, IPC Low Density)
pins on every part: 4 V- (power), 8 V+ (power)
part A pins: 1 OUT A (out), 2 -IN A (in), 3 +IN A (in)
part B pins: 5 +IN B (in), 6 -IN B (in), 7 OUT B (out)

## LT1367CS
designator U?
Quad Channel, Operational Amplifier, C-load Stable up to 1000pF, 0.4 MHz Typical GBW, 0.13 V/us Typical SR, 2 to 36 V, 14-Pin SOIC (S-14), Commerical; Linear Technology Part Number: LT1367; Manufacturer: Linear Technology; PartNumber: LT1367CS; Channels (#): 4; GBW (MHz) Typical: 0.4; Is (mA) Typical: 0.34; SR (V/us) Typical: 0.13; Vos (mV) Typical: 0.15; Vs Max (V): 36; Vs Min (V): 2; DatasheetVersion: Rev. B; PackageVersion: Rev G; PackageReference: LT-S-14; PackageDescription: 14-Lead Plastic Small Outline, Body 8.65 x 3.90 mm, Pitch 1.27 mm; Supplier 1: Digi-Key; Supplier Part Number 1: LT1367CS-ND; Supplier 2: Newark; Supplier Part Number 2: 57M3526; Type: VFB; Mounting Technology: Surface Mount; ComponentLink1Description: Manufacturer URL; ComponentLink1URL: http://www.linear.com/; ComponentLink2Description: Datasheet; ComponentLink2URL: http://cds.linear.com/docs/en/datasheet/1366fb.pdf; ComponentLink3Description: Package Specification; ComponentLink3URL: http://cds.linear.com/docs/en/packaging/05081610_G_S14.pdf
footprint LT-S-14_N (SOIC, 14-Leads, Body 8.65x3.90mm, Pitch 1.27mm, IPC Medium Density)
footprint LT-S-14_L (SOIC, 14-Leads, Body 8.65x3.90mm, Pitch 1.27mm, IPC High Density)
footprint LT-S-14_M (SOIC, 14-Leads, Body 8.65x3.90mm, Pitch 1.27mm, IPC Low Density)
pins on every part: 4 V+ (power), 11 V- (power)
part A pins: 1 OUT A (out), 2 -IN A (in), 3 +IN A (in)
part B pins: 5 +IN B (in), 6 -IN B (in), 7 OUT B (out)
part C pins: 8 OUT C (out), 9 -IN C (in), 10 +IN C (in)
part D pins: 12 +IN D (in), 13 -IN D (in), 14 OUT D (out)

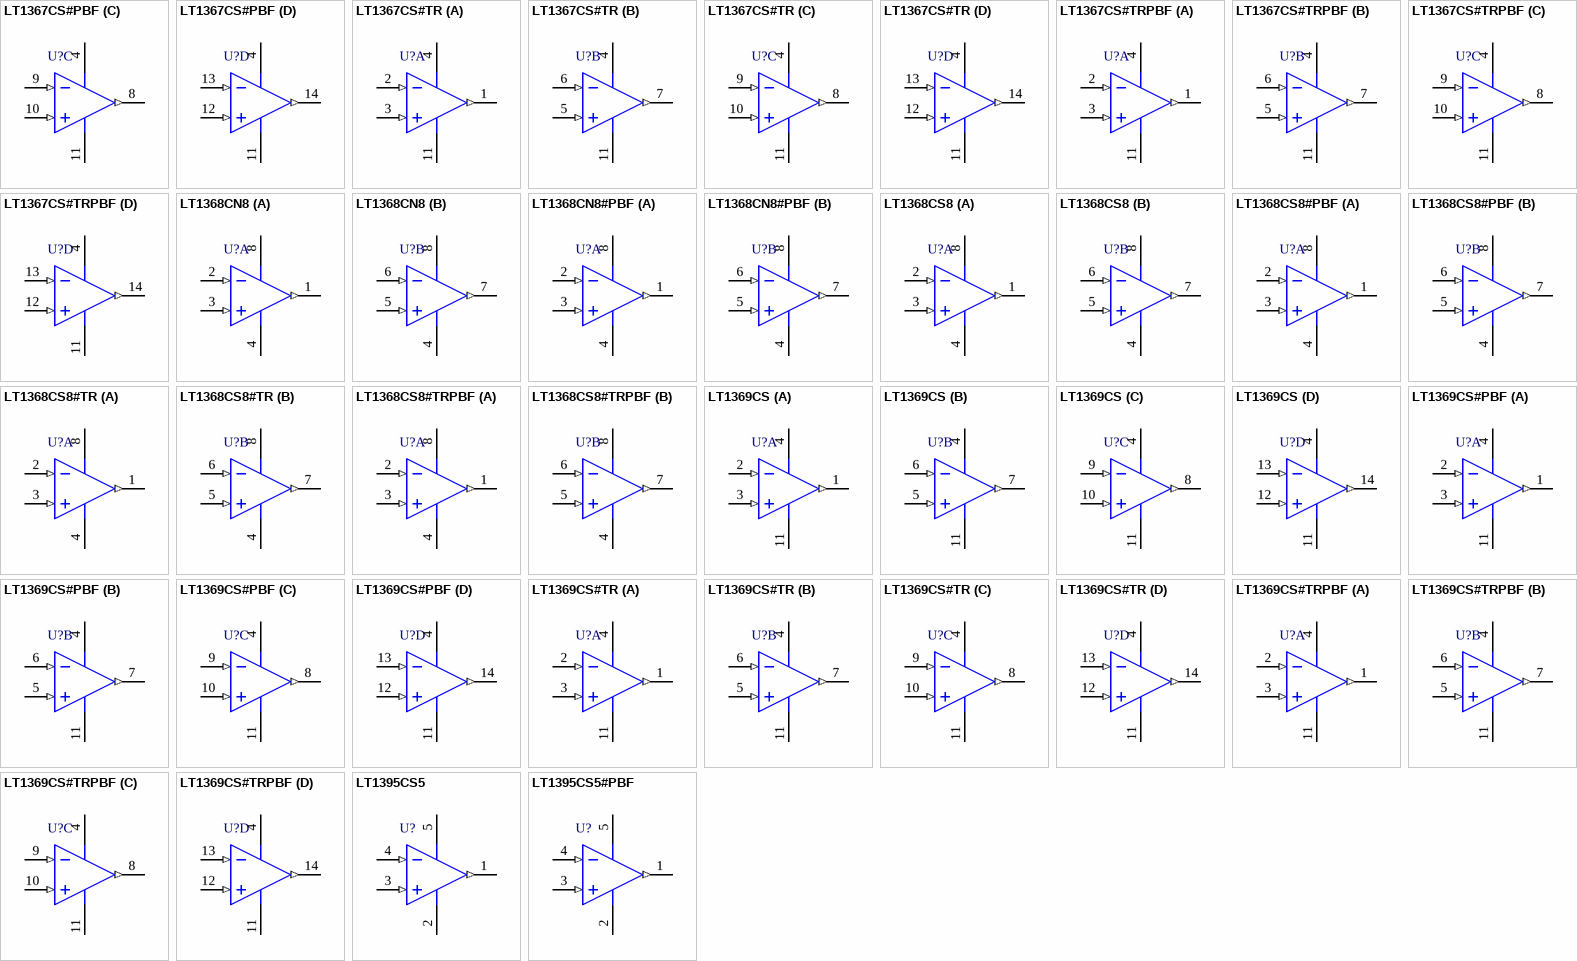
[diagram p33: symbols LT1367CS#PBF to LT1395CS5#PBF]

## LT1367CS#PBF
designator U?
Quad Channel, Operational Amplifier, C-load Stable up to 1000pF, 0.4 MHz Typical GBW, 0.13 V/us Typical SR, 2 to 36 V, 14-Pin SOIC (S-14), Commerical, Pb-Free; Linear Technology Part Number: LT1367; Manufacturer: Linear Technology; PartNumber: LT1367CS#PBF; Channels (#): 4; GBW (MHz) Typical: 0.4; Is (mA) Typical: 0.34; SR (V/us) Typical: 0.13; Vos (mV) Typical: 0.15; Vs Max (V): 36; Vs Min (V): 2; DatasheetVersion: Rev. B; PackageVersion: Rev G; PackageReference: LT-S-14; PackageDescription: 14-Lead Plastic Small Outline, Body 8.65 x 3.90 mm, Pitch 1.27 mm; Supplier 1: Digi-Key; Supplier Part Number 1: LT1367CS#PBF-ND; Supplier 2: Farnell; Supplier Part Number 2: 2252714; Supplier 3: Newark; Supplier Part Number 3: 57M3527; RoHS: Pb-Free; Type: VFB; Mounting Technology: Surface Mount; ComponentLink1Description: Manufacturer URL; ComponentLink1URL: http://www.linear.com/; ComponentLink2Description: Datasheet; ComponentLink2URL: http://cds.linear.com/docs/en/datasheet/1366fb.pdf; ComponentLink3Description: Package Specification; ComponentLink3URL: http://cds.linear.com/docs/en/packaging/05081610_G_S14.pdf
footprint LT-S-14_N (SOIC, 14-Leads, Body 8.65x3.90mm, Pitch 1.27mm, IPC Medium Density)
footprint LT-S-14_L (SOIC, 14-Leads, Body 8.65x3.90mm, Pitch 1.27mm, IPC High Density)
footprint LT-S-14_M (SOIC, 14-Leads, Body 8.65x3.90mm, Pitch 1.27mm, IPC Low Density)
pins on every part: 4 V+ (power), 11 V- (power)
part A pins: 1 OUT A (out), 2 -IN A (in), 3 +IN A (in)
part B pins: 5 +IN B (in), 6 -IN B (in), 7 OUT B (out)
part C pins: 8 OUT C (out), 9 -IN C (in), 10 +IN C (in)
part D pins: 12 +IN D (in), 13 -IN D (in), 14 OUT D (out)

## LT1367CS#TR
designator U?
Quad Channel, Operational Amplifier, C-load Stable up to 1000pF, 0.4 MHz Typical GBW, 0.13 V/us Typical SR, 2 to 36 V, 14-Pin SOIC (S-14), Commerical, Reel; Linear Technology Part Number: LT1367; Manufacturer: Linear Technology; PartNumber: LT1367CS#TR; Channels (#): 4; GBW (MHz) Typical: 0.4; Is (mA) Typical: 0.34; SR (V/us) Typical: 0.13; Vos (mV) Typical: 0.15; Vs Max (V): 36; Vs Min (V): 2; DatasheetVersion: Rev. B; PackageVersion: Rev G; PackageReference: LT-S-14; PackageDescription: 14-Lead Plastic Small Outline, Body 8.65 x 3.90 mm, Pitch 1.27 mm; Supplier 1: Digi-Key; Supplier Part Number 1: LT1367CS#TR-ND; Supplier 2: Newark; Supplier Part Number 2: 57M3528; Packing: Reel; Type: VFB; Mounting Technology: Surface Mount; ComponentLink1Description: Manufacturer URL; ComponentLink1URL: http://www.linear.com/; ComponentLink2Description: Datasheet; ComponentLink2URL: http://cds.linear.com/docs/en/datasheet/1366fb.pdf; ComponentLink3Description: Package Specification; ComponentLink3URL: http://cds.linear.com/docs/en/packaging/05081610_G_S14.pdf
footprint LT-S-14_N (SOIC, 14-Leads, Body 8.65x3.90mm, Pitch 1.27mm, IPC Medium Density)
footprint LT-S-14_L (SOIC, 14-Leads, Body 8.65x3.90mm, Pitch 1.27mm, IPC High Density)
footprint LT-S-14_M (SOIC, 14-Leads, Body 8.65x3.90mm, Pitch 1.27mm, IPC Low Density)
pins on every part: 4 V+ (power), 11 V- (power)
part A pins: 1 OUT A (out), 2 -IN A (in), 3 +IN A (in)
part B pins: 5 +IN B (in), 6 -IN B (in), 7 OUT B (out)
part C pins: 8 OUT C (out), 9 -IN C (in), 10 +IN C (in)
part D pins: 12 +IN D (in), 13 -IN D (in), 14 OUT D (out)

## LT1367CS#TRPBF
designator U?
Quad Channel, Operational Amplifier, C-load Stable up to 1000pF, 0.4 MHz Typical GBW, 0.13 V/us Typical SR, 2 to 36 V, 14-Pin SOIC (S-14), Commerical, Pb-Free, Reel; Linear Technology Part Number: LT1367; Manufacturer: Linear Technology; PartNumber: LT1367CS#TRPBF; Channels (#): 4; GBW (MHz) Typical: 0.4; Is (mA) Typical: 0.34; SR (V/us) Typical: 0.13; Vos (mV) Typical: 0.15; Vs Max (V): 36; Vs Min (V): 2; DatasheetVersion: Rev. B; PackageVersion: Rev G; PackageReference: LT-S-14; PackageDescription: 14-Lead Plastic Small Outline, Body 8.65 x 3.90 mm, Pitch 1.27 mm; Supplier 1: Digi-Key; Supplier Part Number 1: LT1367CS#TRPBF-ND; Supplier 2: Newark; Supplier Part Number 2: 57M3529; Packing: Reel; RoHS: Pb-Free; Type: VFB; Mounting Technology: Surface Mount; ComponentLink1Description: Manufacturer URL; ComponentLink1URL: http://www.linear.com/; ComponentLink2Description: Datasheet; ComponentLink2URL: http://cds.linear.com/docs/en/datasheet/1366fb.pdf; ComponentLink3Description: Package Specification; ComponentLink3URL: http://cds.linear.com/docs/en/packaging/05081610_G_S14.pdf
footprint LT-S-14_N (SOIC, 14-Leads, Body 8.65x3.90mm, Pitch 1.27mm, IPC Medium Density)
footprint LT-S-14_L (SOIC, 14-Leads, Body 8.65x3.90mm, Pitch 1.27mm, IPC High Density)
footprint LT-S-14_M (SOIC, 14-Leads, Body 8.65x3.90mm, Pitch 1.27mm, IPC Low Density)
pins on every part: 4 V+ (power), 11 V- (power)
part A pins: 1 OUT A (out), 2 -IN A (in), 3 +IN A (in)
part B pins: 5 +IN B (in), 6 -IN B (in), 7 OUT B (out)
part C pins: 8 OUT C (out), 9 -IN C (in), 10 +IN C (in)
part D pins: 12 +IN D (in), 13 -IN D (in), 14 OUT D (out)

## LT1368CN8
designator U?
Dual Channel, Operational Amplifier, Stable with 100 nF C-load, 0.16 MHz Typical GBW, 0.065 V/us Typical SR, 2 to 36 V, 8-Pin DIP (N8-8), Commercial; Linear Technology Part Number: LT1368; Manufacturer: Linear Technology; PartNumber: LT1368CN8; Channels (#): 2; GBW (MHz) Typical: 0.16; Is (mA) Typical: 0.34; SR (V/us) Typical: 0.065; Vos (mV) Typical: 0.15; Vs Max (V): 36; DatasheetVersion: Rev. B; PackageVersion: Rev I; PackageReference: LT-N8-8; PackageDescription: 8-Lead PDIP, Body 10.16 x 6.48 mm, Pitch 2.54 mm; Type: VFB; Vs Min (V): 2; Mounting Technology: Surface Mount; ComponentLink1Description: Manufacturer URL; ComponentLink1URL: http://www.linear.com/; ComponentLink2Description: Datasheet; ComponentLink2URL: http://cds.linear.com/docs/en/datasheet/1366fb.pdf; ComponentLink3Description: Package Specification; ComponentLink3URL: http://cds.linear.com/docs/en/packaging/05081510_I_N8.pdf
footprint LT-N8-8 (DIP, 8-Leads, Body 10.16x6.48mm, Pitch 2.54mm)
pins on every part: 4 V- (power), 8 V+ (power)
part A pins: 1 OUT A (out), 2 -IN A (in), 3 +IN A (in)
part B pins: 5 +IN B (in), 6 -IN B (in), 7 OUT B (out)

## LT1368CN8#PBF
designator U?
Dual Channel, Operational Amplifier, Stable with 100 nF C-load, 0.16 MHz Typical GBW, 0.065 V/us Typical SR, 2 to 36 V, 8-Pin DIP (N8-8), Commercial, Pb-Free; Linear Technology Part Number: LT1368; Manufacturer: Linear Technology; PartNumber: LT1368CN8#PBF; Channels (#): 2; GBW (MHz) Typical: 0.16; Is (mA) Typical: 0.34; SR (V/us) Typical: 0.065; Vos (mV) Typical: 0.15; Vs Max (V): 36; DatasheetVersion: Rev. B; PackageVersion: Rev I; PackageReference: LT-N8-8; PackageDescription: 8-Lead PDIP, Body 10.16 x 6.48 mm, Pitch 2.54 mm; Supplier 1: Digi-Key; Supplier Part Number 1: LT1368CN8#PBF-ND; Supplier 2: Farnell; Supplier Part Number 2: 1330646; Supplier 3: Newark; Supplier Part Number 3: 57M3531; RoHS: Pb-Free; Type: VFB; Vs Min (V): 2; Mounting Technology: Through Hole; ComponentLink1Description: Manufacturer URL; ComponentLink1URL: http://www.linear.com/; ComponentLink2Description: Datasheet; ComponentLink2URL: http://cds.linear.com/docs/en/datasheet/1366fb.pdf; ComponentLink3Description: Package Specification; ComponentLink3URL: http://cds.linear.com/docs/en/packaging/05081510_I_N8.pdf
footprint LT-N8-8 (DIP, 8-Leads, Body 10.16x6.48mm, Pitch 2.54mm)
pins on every part: 4 V- (power), 8 V+ (power)
part A pins: 1 OUT A (out), 2 -IN A (in), 3 +IN A (in)
part B pins: 5 +IN B (in), 6 -IN B (in), 7 OUT B (out)

## LT1368CS8
designator U?
Dual Channel, Operational Amplifier, Stable with 100 nF C-load, 0.16 MHz Typical GBW, 0.065 V/us Typical SR, 2 to 36 V, 8-Pin SOIC (S8-8), Commercial; Linear Technology Part Number: LT1368; Manufacturer: Linear Technology; PartNumber: LT1368CS8; Channels (#): 2; GBW (MHz) Typical: 0.16; Is (mA) Typical: 0.34; SR (V/us) Typical: 0.065; Vos (mV) Typical: 0.15; Vs Max (V): 36; DatasheetVersion: Rev. B; PackageVersion: Rev G; PackageReference: LT-S8-8; PackageDescription: 8-Pin Plastic Small Outline, Body 4.9 x 3.9 mm, Pitch 1.27 mm; Supplier 1: Digi-Key; Supplier Part Number 1: LT1368CS8-ND; Supplier 2: Newark; Supplier Part Number 2: 57M3532; Type: VFB; Vs Min (V): 2; Mounting Technology: Surface Mount; ComponentLink1Description: Manufacturer URL; ComponentLink1URL: http://www.linear.com/; ComponentLink2Description: Datasheet; ComponentLink2URL: http://cds.linear.com/docs/en/datasheet/1366fb.pdf; ComponentLink3Description: Package Specification; ComponentLink3URL: http://cds.linear.com/docs/en/packaging/05081610_G_SO8.pdf
footprint LT-S8-8_N (SOIC, 8-Leads, Body 4.9x3.9mm, Pitch 1.27mm, IPC Medium Density)
footprint LT-S8-8_L (SOIC, 8-Leads, Body 4.9x3.9mm, Pitch 1.27mm, IPC High Density)
footprint LT-S8-8_M (SOIC, 8-Leads, Body 4.9x3.9mm, Pitch 1.27mm, IPC Low Density)
pins on every part: 4 V- (power), 8 V+ (power)
part A pins: 1 OUT A (out), 2 -IN A (in), 3 +IN A (in)
part B pins: 5 +IN B (in), 6 -IN B (in), 7 OUT B (out)

## LT1368CS8#PBF
designator U?
Dual Channel, Operational Amplifier, Stable with 100 nF C-load, 0.16 MHz Typical GBW, 0.065 V/us Typical SR, 2 to 36 V, 8-Pin SOIC (S8-8), Commercial, Pb-Free; Linear Technology Part Number: LT1368; Manufacturer: Linear Technology; PartNumber: LT1368CS8#PBF; Channels (#): 2; GBW (MHz) Typical: 0.16; Is (mA) Typical: 0.34; SR (V/us) Typical: 0.065; Vos (mV) Typical: 0.15; Vs Max (V): 36; DatasheetVersion: Rev. B; PackageVersion: Rev G; PackageReference: LT-S8-8; PackageDescription: 8-Pin Plastic Small Outline, Body 4.9 x 3.9 mm, Pitch 1.27 mm; Supplier 1: Digi-Key; Supplier Part Number 1: LT1368CS8#PBF-ND; Supplier 2: Farnell; Supplier Part Number 2: 1663415; Supplier 3: Newark; Supplier Part Number 3: 57M3533; RoHS: Pb-Free; Type: VFB; Vs Min (V): 2; Mounting Technology: Surface Mount; ComponentLink1Description: Manufacturer URL; ComponentLink1URL: http://www.linear.com/; ComponentLink2Description: Datasheet; ComponentLink2URL: http://cds.linear.com/docs/en/datasheet/1366fb.pdf; ComponentLink3Description: Package Specification; ComponentLink3URL: http://cds.linear.com/docs/en/packaging/05081610_G_SO8.pdf
footprint LT-S8-8_N (SOIC, 8-Leads, Body 4.9x3.9mm, Pitch 1.27mm, IPC Medium Density)
footprint LT-S8-8_L (SOIC, 8-Leads, Body 4.9x3.9mm, Pitch 1.27mm, IPC High Density)
footprint LT-S8-8_M (SOIC, 8-Leads, Body 4.9x3.9mm, Pitch 1.27mm, IPC Low Density)
pins on every part: 4 V- (power), 8 V+ (power)
part A pins: 1 OUT A (out), 2 -IN A (in), 3 +IN A (in)
part B pins: 5 +IN B (in), 6 -IN B (in), 7 OUT B (out)

## LT1368CS8#TR
designator U?
Dual Channel, Operational Amplifier, Stable with 100 nF C-load, 0.16 MHz Typical GBW, 0.065 V/us Typical SR, 2 to 36 V, 8-Pin SOIC (S8-8), Commercial, Reel; Linear Technology Part Number: LT1368; Manufacturer: Linear Technology; PartNumber: LT1368CS8#TR; Channels (#): 2; GBW (MHz) Typical: 0.16; Is (mA) Typical: 0.34; SR (V/us) Typical: 0.065; Vos (mV) Typical: 0.15; Vs Max (V): 36; DatasheetVersion: Rev. B; PackageVersion: Rev G; PackageReference: LT-S8-8; PackageDescription: 8-Pin Plastic Small Outline, Body 4.9 x 3.9 mm, Pitch 1.27 mm; Supplier 1: Digi-Key; Supplier Part Number 1: LT1368CS8#TR-ND; Packing: Reel; Type: VFB; Vs Min (V): 2; Mounting Technology: Surface Mount; ComponentLink1Description: Manufacturer URL; ComponentLink1URL: http://www.linear.com/; ComponentLink2Description: Datasheet; ComponentLink2URL: http://cds.linear.com/docs/en/datasheet/1366fb.pdf; ComponentLink3Description: Package Specification; ComponentLink3URL: http://cds.linear.com/docs/en/packaging/05081610_G_SO8.pdf
footprint LT-S8-8_N (SOIC, 8-Leads, Body 4.9x3.9mm, Pitch 1.27mm, IPC Medium Density)
footprint LT-S8-8_L (SOIC, 8-Leads, Body 4.9x3.9mm, Pitch 1.27mm, IPC High Density)
footprint LT-S8-8_M (SOIC, 8-Leads, Body 4.9x3.9mm, Pitch 1.27mm, IPC Low Density)
pins on every part: 4 V- (power), 8 V+ (power)
part A pins: 1 OUT A (out), 2 -IN A (in), 3 +IN A (in)
part B pins: 5 +IN B (in), 6 -IN B (in), 7 OUT B (out)

## LT1368CS8#TRPBF
designator U?
Dual Channel, Operational Amplifier, Stable with 100 nF C-load, 0.16 MHz Typical GBW, 0.065 V/us Typical SR, 2 to 36 V, 8-Pin SOIC (S8-8), Commercial, Pb-Free, Reel; Linear Technology Part Number: LT1368; Manufacturer: Linear Technology; PartNumber: LT1368CS8#TRPBF; Channels (#): 2; GBW (MHz) Typical: 0.16; Is (mA) Typical: 0.34; SR (V/us) Typical: 0.065; Vos (mV) Typical: 0.15; Vs Max (V): 36; DatasheetVersion: Rev. B; PackageVersion: Rev G; PackageReference: LT-S8-8; PackageDescription: 8-Pin Plastic Small Outline, Body 4.9 x 3.9 mm, Pitch 1.27 mm; Supplier 1: Digi-Key; Supplier Part Number 1: LT1368CS8#TRPBF-ND; Supplier 2: Newark; Supplier Part Number 2: 57M3535; Packing: Reel; RoHS: Pb-Free; Type: VFB; Vs Min (V): 2; Mounting Technology: Surface Mount; ComponentLink1Description: Manufacturer URL; ComponentLink1URL: http://www.linear.com/; ComponentLink2Description: Datasheet; ComponentLink2URL: http://cds.linear.com/docs/en/datasheet/1366fb.pdf; ComponentLink3Description: Package Specification; ComponentLink3URL: http://cds.linear.com/docs/en/packaging/05081610_G_SO8.pdf
footprint LT-S8-8_N (SOIC, 8-Leads, Body 4.9x3.9mm, Pitch 1.27mm, IPC Medium Density)
footprint LT-S8-8_L (SOIC, 8-Leads, Body 4.9x3.9mm, Pitch 1.27mm, IPC High Density)
footprint LT-S8-8_M (SOIC, 8-Leads, Body 4.9x3.9mm, Pitch 1.27mm, IPC Low Density)
pins on every part: 4 V- (power), 8 V+ (power)
part A pins: 1 OUT A (out), 2 -IN A (in), 3 +IN A (in)
part B pins: 5 +IN B (in), 6 -IN B (in), 7 OUT B (out)

## LT1369CS
designator U?
Quad Channel, Operational Amplifier, Stable with 100nF C-load, 0.16 MHz Typical GBW, 0.065 V/us Typical SR, 2 to 36 V, 14-Pin SOIC (S-14), Commerical; Linear Technology Part Number: LT1369; Manufacturer: Linear Technology; PartNumber: LT1369CS; Channels (#): 4; GBW (MHz) Typical: 0.16; Is (mA) Typical: 0.34; SR (V/us) Typical: 0.065; Vos (mV) Typical: 0.15; Vs Max (V): 36; Vs Min (V): 2; DatasheetVersion: Rev. B; PackageVersion: Rev G; PackageReference: LT-S-14; PackageDescription: 14-Lead Plastic Small Outline, Body 8.65 x 3.90 mm, Pitch 1.27 mm; Supplier 1: Digi-Key; Supplier Part Number 1: LT1369CS-ND; Type: VFB; Mounting Technology: Surface Mount; ComponentLink1Description: Manufacturer URL; ComponentLink1URL: http://www.linear.com/; ComponentLink2Description: Datasheet; ComponentLink2URL: http://cds.linear.com/docs/en/datasheet/1366fb.pdf; ComponentLink3Description: Package Specification; ComponentLink3URL: http://cds.linear.com/docs/en/packaging/05081610_G_S14.pdf
footprint LT-S-14_N (SOIC, 14-Leads, Body 8.65x3.90mm, Pitch 1.27mm, IPC Medium Density)
footprint LT-S-14_L (SOIC, 14-Leads, Body 8.65x3.90mm, Pitch 1.27mm, IPC High Density)
footprint LT-S-14_M (SOIC, 14-Leads, Body 8.65x3.90mm, Pitch 1.27mm, IPC Low Density)
pins on every part: 4 V+ (power), 11 V- (power)
part A pins: 1 OUT A (out), 2 -IN A (in), 3 +IN A (in)
part B pins: 5 +IN B (in), 6 -IN B (in), 7 OUT B (out)
part C pins: 8 OUT C (out), 9 -IN C (in), 10 +IN C (in)
part D pins: 12 +IN D (in), 13 -IN D (in), 14 OUT D (out)

## LT1369CS#PBF
designator U?
Quad Channel, Operational Amplifier, Stable with 100nF C-load, 0.16 MHz Typical GBW, 0.065 V/us Typical SR, 2 to 36 V, 14-Pin SOIC (S-14), Commerical, Pb-Free; Linear Technology Part Number: LT1369; Manufacturer: Linear Technology; PartNumber: LT1369CS#PBF; Channels (#): 4; GBW (MHz) Typical: 0.16; Is (mA) Typical: 0.34; SR (V/us) Typical: 0.065; Vos (mV) Typical: 0.15; Vs Max (V): 36; Vs Min (V): 2; DatasheetVersion: Rev. B; PackageVersion: Rev G; PackageReference: LT-S-14; PackageDescription: 14-Lead Plastic Small Outline, Body 8.65 x 3.90 mm, Pitch 1.27 mm; Supplier 1: Digi-Key; Supplier Part Number 1: LT1369CS#PBF-ND; Supplier 2: Newark; Supplier Part Number 2: 57M3537; RoHS: Pb-Free; Type: VFB; Mounting Technology: Surface Mount; ComponentLink1Description: Manufacturer URL; ComponentLink1URL: http://www.linear.com/; ComponentLink2Description: Datasheet; ComponentLink2URL: http://cds.linear.com/docs/en/datasheet/1366fb.pdf; ComponentLink3Description: Package Specification; ComponentLink3URL: http://cds.linear.com/docs/en/packaging/05081610_G_S14.pdf
footprint LT-S-14_N (SOIC, 14-Leads, Body 8.65x3.90mm, Pitch 1.27mm, IPC Medium Density)
footprint LT-S-14_L (SOIC, 14-Leads, Body 8.65x3.90mm, Pitch 1.27mm, IPC High Density)
footprint LT-S-14_M (SOIC, 14-Leads, Body 8.65x3.90mm, Pitch 1.27mm, IPC Low Density)
pins on every part: 4 V+ (power), 11 V- (power)
part A pins: 1 OUT A (out), 2 -IN A (in), 3 +IN A (in)
part B pins: 5 +IN B (in), 6 -IN B (in), 7 OUT B (out)
part C pins: 8 OUT C (out), 9 -IN C (in), 10 +IN C (in)
part D pins: 12 +IN D (in), 13 -IN D (in), 14 OUT D (out)